# Altium schematic symbol library edgsm.SchLib: 1 symbol
Pins are listed as number, name and electrical type; pins without a type are passive.

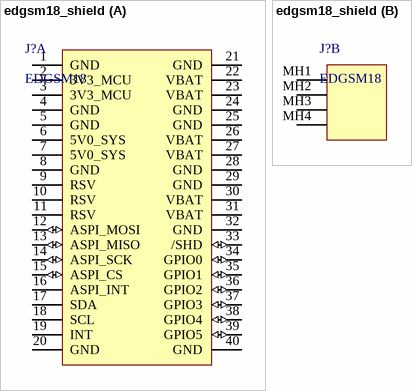
[diagram p0: symbol edgsm18_shield]

## edgsm18_shield
designator J?, comment EDGSM18
footprint edgsm_shield
part A pins: 1 GND (power), 2 3V3_MCU (power), 3 3V3_MCU (power), 4 GND (power), 5 GND (power), 6 5V0_SYS (power), 7 5V0_SYS (power), 8 GND (power), 9 RSV (power), 10 RSV (power), 11 RSV (power), 12 ASPI_MOSI (io), 13 ASPI_MISO (io), 14 ASPI_SCK (io), 15 ASPI_CS (io), 16 ASPI_INT (oc), 17 SDA (oc), 18 SCL (oc), 19 INT (power), 20 GND (power), 21 GND (power), 22 VBAT (power), 23 VBAT (power), 24 GND (power), 25 GND (power), 26 VBAT (power), 27 VBAT (power), 28 GND (power), 29 GND (power), 30 VBAT (power), 31 VBAT (power), 32 GND (power), 33 /SHD (io), 34 GPIO0 (io), 35 GPIO1 (io), 36 GPIO2 (io), 37 GPIO3 (io), 38 GPIO4 (io), 39 GPIO5 (io), 40 GND (power)
part B pins: MH1, MH2, MH3, MH4